# Altium schematic symbol library Lib_Schematic_IFOG_Interrogator.SchLib: 34 symbols
Pins are listed as number, name and electrical type; pins without a type are passive.

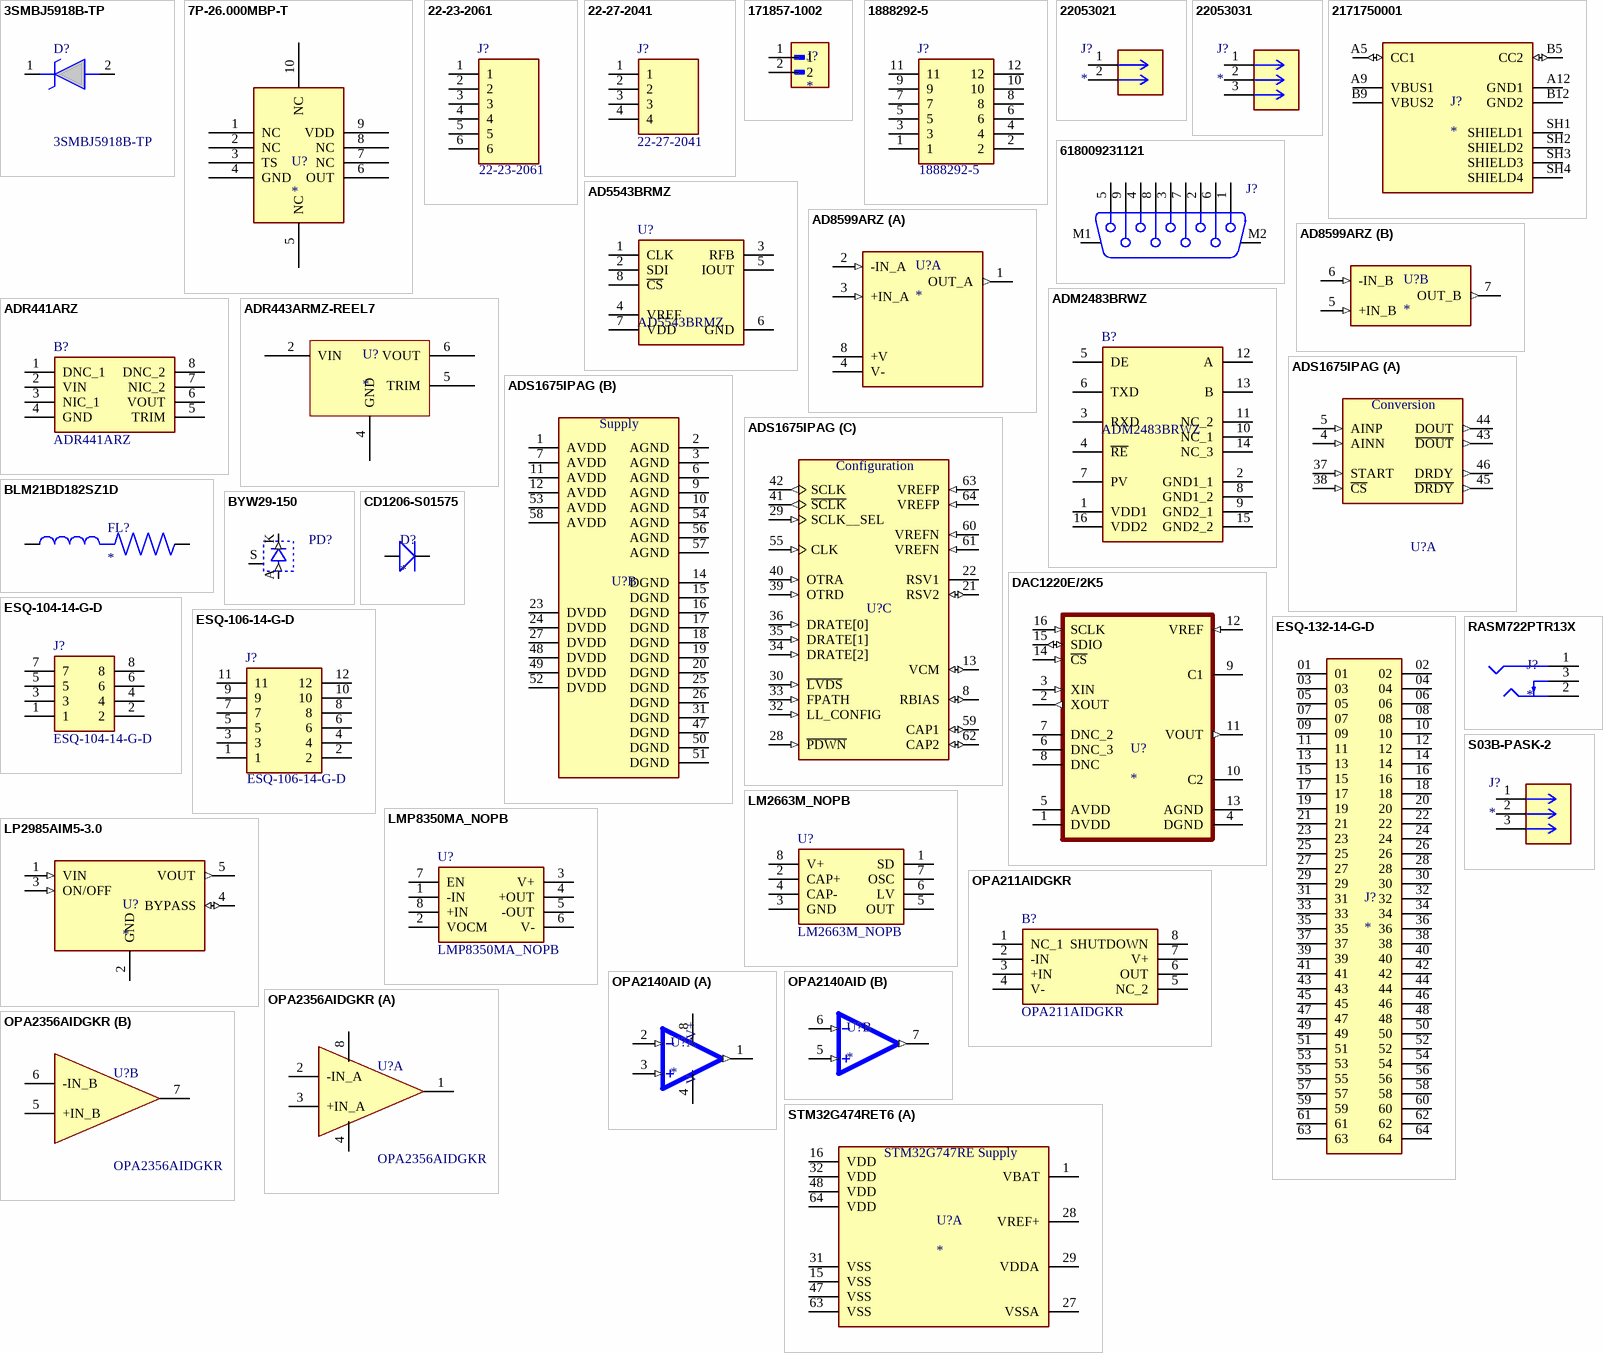
[diagram p0: symbols 3SMBJ5918B-TP to STM32G474RET6]

## 3SMBJ5918B-TP
designator D?
Zener Diodes; Manufacturer_Name: MCC; Geometry.Height: 2.62mm; Manufacturer_Part_Number: 3SMBJ5918B-TP; Mouser Part Number: 833-3SMBJ5918B-TP; Mouser Price/Stock: https://www.mouser.com/Search/Refine.aspx?Keyword=833-3SMBJ5918B-TP; Arrow Part Number: 3SMBJ5918B-TP; Arrow Price/Stock: https://www.arrow.com/en/products/3smbj5918b-tp/micro-commercial-components; Datasheet Link: https://www.mccsemi.com/pdf/Products/3SMBJ5918B-3SMBJ5956B(SMB).pdf
footprint DIOM5336X262N
footprint 3SMBJ5918B-TP
pins: 1 K, 2 A

## 7P-26.000MBP-T
designator U?
footprint 7P26000MBPT
pins: 1 NC, 2 NC, 3 TS, 4 GND, 5 NC, 6 OUT, 7 NC, 8 NC, 9 VDD, 10 NC

## 22-23-2061
designator J?
2.54mm,header,KK,vert,Sn,frictn lock,6w Molex KK 254 Series, Series Number 6373, 2.54mm Pitch 6 Way 1 Row Straight PCB Header, Through Hole, Solder Termination; Geometry.Height: 11.05mm; Manufacturer_Name: Molex; Manufacturer_Part_Number: 22-23-2061; Mouser Part Number: 538-22-23-2061; Mouser Price/Stock: https://www.mouser.co.uk/ProductDetail/Molex/22-23-2061?qs=ILqg114nvd6YkpLBwrcQsQ%3D%3D; Arrow Part Number: *; Arrow Price/Stock: *; Datasheet Link: http://www.molex.com/pdm_docs/sd/022232061_sd.pdf
footprint SHDR6W87P0X254_1X6_1509X635X1105P
footprint 22-23-2061
pins: 1, 2, 3, 4, 5, 6

## 22-27-2041
designator J?
Headers & Wire Housings 4 POS HEADER; Manufacturer_Name: Molex; Geometry.Height: 11.7mm; Manufacturer_Part_Number: 22-27-2041; Mouser Part Number: 538-22-27-2041; Mouser Price/Stock: https://www.mouser.co.uk/ProductDetail/Molex/22-27-2041?qs=hSmm4fxMIuMKVUQkn4wbYQ%3D%3D; Arrow Part Number: *; Arrow Price/Stock: *; Datasheet Link: https://www.molex.com/pdm_docs/sd/022272041_sd.pdf
footprint SHDR4W64P0X254_1X4_1016X580X1170P
footprint 22-27-2041
pins: 1, 2, 3, 4

## 171857-1002
designator J?
MF: {'manufacturer': u'Molex'}; MP: 171857-1002; Package: None; Price: None; Value: *; Availability: Unavailable
footprint MOLEX_171857-1002
footprint MOLEX_171857-1002
pins: 1, 2

## 1888292-5
designator J?
12 Position, Elevated Socket Strip, 0.100&quot; Pitch; Manufacturer_Name: SAMTEC; Manufacturer_Part_Number: ESQ-106-14-G-D; Mouser Part Number: 200-ESQ10614GD; Mouser Price/Stock: https://www.mouser.co.uk/ProductDetail/Samtec/ESQ-106-14-G-D?qs=0lQeLiL1qybkPQShhYifng%3D%3D; Arrow Part Number: *; Arrow Price/Stock: *; Datasheet Link: http://suddendocs.samtec.com/prints/esq-1xx-xx-x-x-xxx-xx-x-xx-mkt.pdf
footprint ESQ-106-Y-X-D
footprint ESQ-106-Y-X-D
footprint TE_1888292-5
pins: 1, 2, 3, 4, 5, 6, 7, 8, 9, 10, 11, 12

## 22053021
designator J?
MP: 22053021; Package: None; Price: None; Value: *; Availability: Unavailable
footprint CONN_A-7478-02A_MOL
footprint 22-05-3021
pins: 1, 2

## 22053031
designator J?
Headers R/A PCB HDR 3P TIN FRICTION LOCK | Molex Incorporated 22-05-3031; SnapEDA_Link: https://www.snapeda.com/parts/22-05-3031/Molex/view-part/?ref=snap; Package: None; Value: *; MF: Molex; MP: 22-05-3031; Check_prices: https://www.snapeda.com/parts/22-05-3031/Molex/view-part/?ref=eda
footprint CONN_A-7478-03A_MOL
footprint 22-05-3031
pins: 1, 2, 3

## 2171750001
designator J?
USB-C (USB TYPE-C) USB 2.0 Receptacle Connector 24 (6+18 Dummy) Position Surface Mount, Right Angle; Through Hole; MF: Molex; MP: 2171750001; SnapEDA_Link: https://www.snapeda.com/parts/2171750001/Molex/view-part/?ref=snap; Package: None; Value: *; Check_prices: https://www.snapeda.com/parts/2171750001/Molex/view-part/?ref=eda
footprint MOLEX_2171750001
footprint MOLEX_2171750001
pins: A5 CC1 (io), A9 VBUS1 (power), A12 GND1 (power), B5 CC2 (io), B9 VBUS2 (power), B12 GND2 (power), SH1 SHIELD1, SH2 SHIELD2, SH3 SHIELD3, SH4 SHIELD4

## 618009231121
designator J?  (value not drawn)
WR-DSUB 8.08mm Female PCB Connector with Hex Screw, THT, Angled, 9p; Manufacturer: Wurth Elektronik; Contact Resistance: 30mΩ; Rated Current: 3A; Working Voltage: 125VAC; Withstanding Voltage: 1000VAC; Manufacturer Part Number: 618009231121; Category: Input/Output Connector; Match Code: WR-DSUB; ComponentLink1Description: Website Link; ComponentLink1URL: https://www.we-online.com/redexpert/article/618009231121?ad; ComponentLink2Description: Datasheet Link; ComponentLink2URL: https://www.we-online.com/redexpert/spec/618009231121?ad; Mount: Through Hole; Min Operating Temperature: -55°C; Max Operating Temperature: 105°C; Packaging: Tray; Gender: Female; Number of Pins: 9; Orientation: Angled
footprint 618009231121
pins: 1, 2, 3, 4, 5, 6, 7, 8, 9, M1, M2

## AD5543BRMZ
designator U?
AD5543BRMZ, 16-Bit General Purpose DAC 2.47Msps, SPI, 8-Pin MSOP; Manufacturer_Name: Analog Devices; Geometry.Height: 1.1mm; Manufacturer_Part_Number: AD5543BRMZ; Mouser Part Number: 584-AD5543BRMZ; Mouser Price/Stock: https://www.mouser.co.uk/ProductDetail/Analog-Devices/AD5543BRMZ?qs=NmRFExCfTkGF7F9gS5LwsA%3D%3D; Arrow Part Number: AD5543BRMZ; Arrow Price/Stock: https://www.arrow.com/en/products/ad5543brmz/analog-devices?utm_currency=USD&region=nac; Datasheet Link: http://www.analog.com/static/imported-files/data_sheets/AD5543_5553.pdf
footprint SOP65P490X110-8N
pins: 1 CLK, 2 SDI, 3 RFB, 4 VREF, 5 IOUT, 6 GND, 7 VDD, 8 ~{CS}

## AD8599ARZ
designator U?
Ultralow Distortion, Ultralow Noise Op Amp (Dual); MF: Analog Devices; MP: AD8599ARZ; Package: SOIC-8 Analog Devices; Price: None; Check_prices: https://www.snapeda.com/parts/AD8599ARZ/Analog+Devices/view-part/?ref=eda; Value: *; SnapEDA_Link: https://www.snapeda.com/parts/AD8599ARZ/Analog+Devices/view-part/?ref=snap; Availability: In Stock; Purchase-URL: https://pricing.snapeda.com/search?q=AD8599ARZ&ref=eda
footprint SOIC127P600X175-8N
footprint AD8599ARZ
part A pins: 1 OUT_A (out), 2 -IN_A (in), 3 +IN_A (in), 4 V- (power), 8 +V (power)
part B pins: 5 +IN_B (in), 6 -IN_B (in), 7 OUT_B (out)

## ADM2483BRWZ
designator B?
Half-Duplex, iCoupler Isolated RS-485 Transceiver; Manufacturer_Name: Analog Devices; Geometry.Height: 2.65mm; Manufacturer_Part_Number: ADM2483BRWZ; Mouser Part Number: 584-ADM2483BRWZ; Mouser Price/Stock: https://www.mouser.co.uk/ProductDetail/Analog-Devices/ADM2483BRWZ?qs=BpaRKvA4VqH5Kim10agOlw%3D%3D; Arrow Part Number: ADM2483BRWZ; Arrow Price/Stock: https://www.arrow.com/en/products/adm2483brwz/analog-devices?utm_currency=USD&region=europe; Datasheet Link: http://uk.rs-online.com/web/p/products/0412719P
footprint SOIC127P1032X265-16N
footprint ADM2483BRWZ
pins: 1 VDD1, 2 GND1_1, 3 RXD, 4 ~{RE}, 5 DE, 6 TXD, 7 PV, 8 GND1_2, 9 GND2_1, 10 NC_1, 11 NC_2, 12 A, 13 B, 14 NC_3, 15 GND2_2, 16 VDD2

## ADR441ARZ
designator B?
Series Voltage Reference IC Fixed 2.5V V +/-0.12% 10 mA 8-SOIC; Manufacturer_Name: Analog Devices; Geometry.Height: 1.75mm; Manufacturer_Part_Number: ADR441ARZ; Mouser Part Number: 584-ADR441ARZ; Mouser Price/Stock: https://www.mouser.co.uk/ProductDetail/Analog-Devices/ADR441ARZ?qs=WIvQP4zGanjF%252B9HT%2FrItQQ%3D%3D; Arrow Part Number: ADR441ARZ; Arrow Price/Stock: https://www.arrow.com/en/products/adr441arz/analog-devices?region=europe; Datasheet Link: https://www.analog.com/media/en/technical-documentation/data-sheets/adr440_441_443_444_445.pdf
footprint SOIC127P600X175-8N
pins: 1 DNC_1, 2 VIN, 3 NIC_1, 4 GND, 5 TRIM, 6 VOUT, 7 NIC_2, 8 DNC_2

## ADR443ARMZ-REEL7
designator U?
Ultralow Noise, LDO XFET Voltage Reference with Current Sink and Source, 3 V Output, 3.5 to 18 V Supply, Industrial, 8-pin SOP (RM-8), Reel
pins: 2 VIN, 4 GND, 5 TRIM, 6 VOUT

## ADS1675IPAG
designator U?
4MSPS, 24-Bit Analog-to-Digital Converter; MP: ADS1675IPAG; MF: Texas Instruments; SnapEDA_Link: https://www.snapeda.com/parts/ADS1675IPAG/Texas+Instruments/view-part/?ref=snap; Package: TQFP-64 Texas Instruments; Check_prices: https://www.snapeda.com/parts/ADS1675IPAG/Texas+Instruments/view-part/?ref=eda; Purchase-URL: https://pricing.snapeda.com/search/part/ADS1675IPAG/?ref=eda; Price: None; Value: *; Availability: In Stock
footprint QFP50P1200X1200X120-64N
footprint ADS1675IPAG
part A pins: 4 AINN (in), 5 AINP (in), 37 START (in), 38 ~{CS} (in), 43 ~{DOUT} (out), 44 DOUT (out), 45 ~{DRDY} (out), 46 DRDY (out)
part B pins: 1 AVDD (power), 2 AGND (power), 3 AGND (power), 6 AGND (power), 7 AVDD (power), 9 AGND (power), 10 AGND (power), 11 AVDD (power), 12 AVDD (power), 14 DGND (power), 15 DGND (power), 16 DGND (power), 17 DGND (power), 18 DGND (power), 19 DGND (power), 20 DGND (power), 23 DVDD (power), 24 DVDD (power), 25 DGND (power), 26 DGND (power), 27 DVDD (power), 31 DGND (power), 47 DGND (power), 48 DVDD (power), 49 DVDD (power), 50 DGND (power), 51 DGND (power), 52 DVDD (power), 53 AVDD (power), 54 AGND (power), 56 AGND (power), 57 AGND (power), 58 AVDD (power)
part C pins: 8 RBIAS (io), 13 VCM (io), 21 RSV2 (io), 22 RSV1 (power), 28 ~{PDWN} (in), 29 SCLK__SEL (in), 30 ~{LVDS} (in), 32 LL_CONFIG (in), 33 FPATH (in), 34 DRATE[2] (in), 35 DRATE[1] (in), 36 DRATE[0] (in), 39 OTRD (in), 40 OTRA (in), 41 ~{S}~{C}~{L}~{K} (out), 42 SCLK (out), 55 CLK (in), 59 CAP1 (io), 60 VREFN (in), 61 VREFN (in), 62 CAP2 (io), 63 VREFP (in), 64 VREFP (in)
part A text: Conversion
part B text: Supply
part C text: Configuration

## BLM21BD182SZ1D
designator FL?
MP: BLM21BD182SZ1D; Package: None; Price: None; Value: *; Availability: Unavailable
footprint BEADC2012X105N
footprint BLM21BD182SZ1D
pins: 1, 2

## BYW29-150
designator PD?
Text Field1: 10; Text Field2: 20
footprint TO220AC
footprint OTICO
footprint Model Name (Footprint not found)
footprint otico
footprint PHOTODETECTOR
footprint BYW29-150
pins: A (in), K (out), S

## CD1206-S01575
designator D?
CD1206-S01575, SMT Switching Diode, Vr=75V 150mA, 4ns, 2-Pin 1206 | Bourns CD1206-S01575; SnapEDA_Link: https://www.snapeda.com/parts/CD1206-S01575/Bourns/view-part/?ref=snap; Package: 1206 Bourns; Value: *; MF: Bourns; MP: CD1206-S01575; Check_prices: https://www.snapeda.com/parts/CD1206-S01575/Bourns/view-part/?ref=eda
footprint LED-1206
pins: NEG, POS

## DAC1220E/2K5
designator U?
Digital-to-Analog Converter; MP: DAC1220E/2K5; Package: None; Price: None; Value: *; Availability: Unavailable
footprint SOP63P600X175-16N
footprint DAC1220E/2K5
pins: 1 DVDD (power), 2 XOUT (out), 3 XIN (in), 4 DGND, 5 AVDD (power), 6 DNC_3, 7 DNC_2, 8 DNC, 9 C1, 10 C2, 11 VOUT (out), 12 VREF (in), 13 AGND, 14 ~{CS} (in), 15 SDIO (io), 16 SCLK (in)

## ESQ-104-14-G-D
designator J?
8 Position, Elevated Socket Strip, 0.100&quot; Pitch; Manufacturer_Name: SAMTEC; Manufacturer_Part_Number: ESQ-104-14-G-D; Mouser Part Number: 200-ESQ10414GD; Mouser Price/Stock: https://www.mouser.co.uk/ProductDetail/Samtec/ESQ-104-14-G-D?qs=92ilVni64gyTjYk0W1u1kw%3D%3D; Arrow Part Number: ESQ-104-14-G-D; Arrow Price/Stock: https://www.arrow.com/en/products/esq-104-14-g-d/samtec; Datasheet Link: http://suddendocs.samtec.com/prints/esq-1xx-xx-x-x-xxx-xx-x-xx-mkt.pdf
footprint ESQ-104-Y-X-D
footprint ESQ-104-Y-X-D
footprint ESQ-104-14-G-D
pins: 1, 2, 3, 4, 5, 6, 7, 8

## ESQ-106-14-G-D
designator J?
12 Position, Elevated Socket Strip, 0.100&quot; Pitch; Manufacturer_Name: SAMTEC; Manufacturer_Part_Number: ESQ-106-14-G-D; Mouser Part Number: 200-ESQ10614GD; Mouser Price/Stock: https://www.mouser.co.uk/ProductDetail/Samtec/ESQ-106-14-G-D?qs=0lQeLiL1qybkPQShhYifng%3D%3D; Arrow Part Number: *; Arrow Price/Stock: *; Datasheet Link: http://suddendocs.samtec.com/prints/esq-1xx-xx-x-x-xxx-xx-x-xx-mkt.pdf
footprint ESQ-106-Y-X-D
footprint ESQ-106-Y-X-D
pins: 1, 2, 3, 4, 5, 6, 7, 8, 9, 10, 11, 12

## ESQ-132-14-G-D
designator J?
MF: Samtec; MP: ESQ-132-14-G-D; Availability: Unavailable; Price: None; Value: *; Package: None
footprint SAMTEC_ESQ-132-14-G-D
footprint ESQ-132-14-G-D
pins: 01, 02, 03, 04, 05, 06, 07, 08, 09, 10, 11, 12, 13, 14, 15, 16, 17, 18, 19, 20, 21, 22, 23, 24, 25, 26, 27, 28, 29, 30, 31, 32, 33, 34, 35, 36, 37, 38, 39, 40, 41, 42, 43, 44, 45, 46, 47, 48, 49, 50, 51, 52, 53, 54, 55, 56, 57, 58, 59, 60, 61, 62, 63, 64

## LM2663M_NOPB
designator U?
200mA switched capacitor voltage converter with low current shutdown mode; Manufacturer_Name: Texas Instruments; Manufacturer_Part_Number: LM2663M/NOPB; Geometry.Height: 1.75mm; Mouser Part Number: 926-LM2663M/NOPB; Mouser Price/Stock: https://www.mouser.co.uk/ProductDetail/Texas-Instruments/LM2663M-NOPB?qs=X1J7HmVL2ZH655akkcil2g%3D%3D; Arrow Part Number: LM2663M/NOPB; Arrow Price/Stock: https://www.arrow.com/en/products/lm2663mnopb/texas-instruments?utm_currency=USD&region=europe; Datasheet Link: http://www.ti.com/lit/ds/symlink/lm2663.pdf
footprint SOIC127P600X175-8N
footprint LM2663M_NOPB
pins: 1 SD, 2 CAP+, 3 GND, 4 CAP-, 5 OUT, 6 LV, 7 OSC, 8 V+

## LMP8350MA_NOPB
designator U?
Ultra Low Distortion Fully Differential Precision ADC Driver with Selectable Power Modes; Manufacturer_Name: Texas Instruments; Manufacturer_Part_Number: LMP8350MA/NOPB; Geometry.Height: 1.75mm; Mouser Part Number: 926-LMP8350MA/NOPB; Mouser Price/Stock: https://www.mouser.co.uk/ProductDetail/Texas-Instruments/LMP8350MA-NOPB?qs=OYMYEaN9QmBOQoVkyNgTKw%3D%3D; Arrow Part Number: LMP8350MA/NOPB; Arrow Price/Stock: null?region=nac; Datasheet Link: http://www.ti.com/lit/gpn/lmp8350
footprint SOIC127P600X175-8N
footprint LMP8350MA_NOPB
pins: 1 -IN, 2 VOCM, 3 V+, 4 +OUT, 5 -OUT, 6 V-, 7 EN, 8 +IN

## LP2985AIM5-3.0
designator U?
150-mA, 16-V, low-dropout voltage regulator with enable; MF: Texas Instruments; MP: LP2985AIM5-3.0/NOPB; SnapEDA_Link: https://www.snapeda.com/parts/LP2985AIM5-3.0/NOPB/Texas+Instruments/view-part/?ref=snap; Package: SOT-23-5 Texas Instruments; Value: *; Check_prices: https://www.snapeda.com/parts/LP2985AIM5-3.0/NOPB/Texas+Instruments/view-part/?ref=eda
footprint SOT95P280X145-5N
footprint LP2985AIM5-3.0
pins: 1 VIN (in), 2 GND (power), 3 ON/OFF (in), 4 BYPASS (io), 5 VOUT (out)

## OPA211AIDGKR
designator B?
Precision Amplifiers 1.1nV/rtHz Noise Lo Pwr Prec Op Amp; Manufacturer_Name: Texas Instruments; Geometry.Height: 1.1mm; Manufacturer_Part_Number: OPA211AIDGKR; Mouser Part Number: 595-OPA211AIDGKR; Mouser Price/Stock: https://www.mouser.co.uk/ProductDetail/Texas-Instruments/OPA211AIDGKR?qs=iSMark9AYDXgBzgxm95hVg%3D%3D; Arrow Part Number: OPA211AIDGKR; Arrow Price/Stock: https://www.arrow.com/en/products/opa211aidgkr/texas-instruments?utm_currency=USD&region=nac; Datasheet Link: https://www.ti.com/general/docs/suppproductinfo.tsp?distId=10&gotoUrl=https%3A%2F%2Fwww.ti.com%2Flit%2Fgpn%2Fopa211
footprint SOP65P490X110-8N
pins: 1 NC_1, 2 -IN, 3 +IN, 4 V-, 5 NC_2, 6 OUT, 7 V+, 8 SHUTDOWN

## OPA2140AID
designator U?
Dual-channel, 11-MHz, low-noise 36-V JFET precision operational amplifier with rail-to-rail output; MF: Texas Instruments; MP: OPA2140AID; SnapEDA_Link: https://www.snapeda.com/parts/OPA2140AID/Texas+Instruments/view-part/?ref=snap; Package: SOIC-8 Texas Instruments; Value: *; Check_prices: https://www.snapeda.com/parts/OPA2140AID/Texas+Instruments/view-part/?ref=eda
footprint SOIC127P599X175-8N
footprint OPA2140AID
part A pins: 1 OUTA (out), 2 -INA (in), 3 +INA (in), 4 V- (power), 8 V+ (power)
part B pins: 5 +INB (in), 6 -INB (in), 7 OUTB (out)

## OPA2356AIDGKR
designator U?
High Speed Operational Amplifiers 2.5V 200MHz GBW CMOS Dual Op Amp; Manufacturer_Name: Texas Instruments; Geometry.Height: 1.1mm; Manufacturer_Part_Number: OPA2356AIDGKR; Mouser Part Number: 595-OPA2356AIDGKR; Mouser Price/Stock: https://www.mouser.co.uk/ProductDetail/Texas-Instruments/OPA2356AIDGKR?qs=7nS3%252BbEUL6thmoW05USD8Q%3D%3D; Arrow Part Number: OPA2356AIDGKR; Arrow Price/Stock: https://www.arrow.com/en/products/opa2356aidgkr/texas-instruments?region=nac; Datasheet Link: http://www.ti.com/lit/ds/symlink/opa2356.pdf
footprint SOP65P490X110-8N
footprint OPA2356AIDGKR
part A pins: 1 OUT_A, 2 -IN_A, 3 +IN_A, 4 V-, 8 V+
part B pins: 5 +IN_B, 6 -IN_B, 7 OUT_B

## RASM722PTR13X
designator J?
Power Barrel Connector Jack 2.10mm ID (0.083), 5.50mm OD (0.217) Surface Mount, Right Angle; MF: Switchcraft Inc.; MP: RASM722PTR13X; SnapEDA_Link: https://www.snapeda.com/parts/RASM722PTR13X/SWITCHCRAFT/view-part/?ref=snap; Package: None; Value: *; Check_prices: https://www.snapeda.com/parts/RASM722PTR13X/SWITCHCRAFT/view-part/?ref=eda
footprint SWITCHCRAFT_RASM722PTR13X
footprint RASM722PTR13X
pins: 1 TIP, 2 SLEEVE, 3 SHUNT

## S03B-PASK-2
designator J?
Headers R/A PCB HDR 3P TIN FRICTION LOCK | Molex Incorporated 22-05-3031; SnapEDA_Link: https://www.snapeda.com/parts/22-05-3031/Molex/view-part/?ref=snap; Package: None; Value: *; MF: Molex; MP: 22-05-3031; Check_prices: https://www.snapeda.com/parts/22-05-3031/Molex/view-part/?ref=eda
footprint CONN_A-7478-03A_MOL
footprint 22-05-3031
footprint S03B-PASK-2
pins: 1, 2, 3

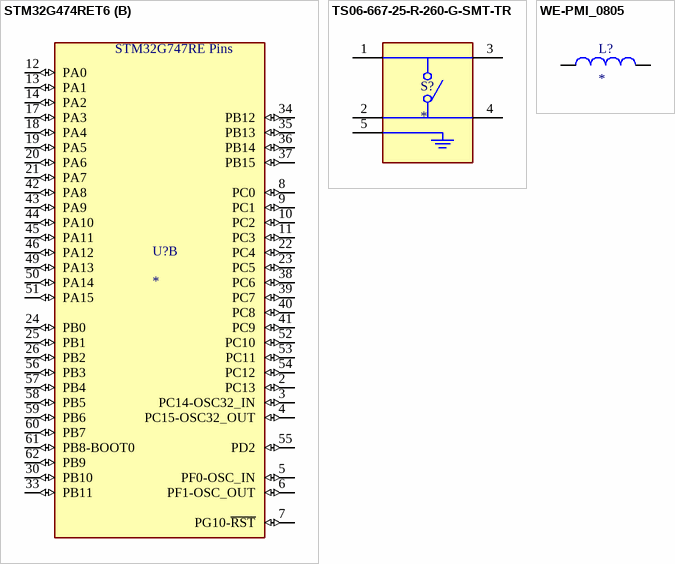
[diagram p1: symbols STM32G474RET6 to WE-PMI_0805]

## STM32G474RET6
designator U?
ARMÂ® CortexÂ®-M4F STM32G4 Microcontroller IC 32-Bit Single-Core 170MHz 512KB (512K x 8) FLASH 64-LQFP (10x10); MF: STMicroelectronics; MP: STM32G474RET6; SnapEDA_Link: https://www.snapeda.com/parts/STM32G474RET6/STMicroelectronics/view-part/?ref=snap; Package: LQFP-64 STMicroelectronics; Value: *; Check_prices: https://www.snapeda.com/parts/STM32G474RET6/STMicroelectronics/view-part/?ref=eda
footprint QFP50P1200X1200X160-64N
footprint STMG474RET6
part A pins: 1 VBAT (power), 15 VSS (power), 16 VDD (power), 27 VSSA (power), 28 VREF+ (power), 29 VDDA (power), 31 VSS (power), 32 VDD (power), 47 VSS (power), 48 VDD (power), 63 VSS (power), 64 VDD (power)
part B pins: 2 PC13 (io), 3 PC14-OSC32_IN (io), 4 PC15-OSC32_OUT (io), 5 PF0-OSC_IN (io), 6 PF1-OSC_OUT (io), 7 PG10-~{RST} (io), 8 PC0 (io), 9 PC1 (io), 10 PC2 (io), 11 PC3 (io), 12 PA0 (io), 13 PA1 (io), 14 PA2 (io), 17 PA3 (io), 18 PA4 (io), 19 PA5 (io), 20 PA6 (io), 21 PA7 (io), 22 PC4 (io), 23 PC5 (io), 24 PB0 (io), 25 PB1 (io), 26 PB2 (io), 30 PB10 (io), 33 PB11 (io), 34 PB12 (io), 35 PB13 (io), 36 PB14 (io), 37 PB15 (io), 38 PC6 (io), 39 PC7 (io), 40 PC8 (io), 41 PC9 (io), 42 PA8 (io), 43 PA9 (io), 44 PA10 (io), 45 PA11 (io), 46 PA12 (io), 49 PA13 (io), 50 PA14 (io), 51 PA15 (io), 52 PC10 (io), 53 PC11 (io), 54 PC12 (io), 55 PD2 (io), 56 PB3 (io), 57 PB4 (io), 58 PB5 (io), 59 PB6 (io), 60 PB7 (io), 61 PB8-BOOT0 (io), 62 PB9 (io)
part A text: STM32G747RE Supply
part B text: STM32G747RE Pins

## TS06-667-25-R-260-G-SMT-TR
designator S?
6 x 6.7 mm, 2.5 mm Actuator Height, 260 gf, Red, Surface Mount, SPST, Tactile Switch; MF: Same Sky; MP: TS06-667-25-R-260-G-SMT-TR; SnapEDA_Link: https://www.snapeda.com/parts/TS06-667-25-R-260-G-SMT-TR/Same+Sky/view-part/?ref=snap; Package: None; Value: *; Check_prices: https://www.snapeda.com/parts/TS06-667-25-R-260-G-SMT-TR/Same+Sky/view-part/?ref=eda
footprint SW_TS06-667-25-R-260-G-SMT-TR
footprint TS06-667-25-R-260-G-SMT-TR
pins: 1, 2, 3, 4, 5

## WE-PMI_0805
designator L?
WE-PMI Series 1 ÂµH Â±20% Multilayer SMD Inductor, 0805 Case; 0.1GHz 1.1A 190mO ¦ Wurth Electronics 74479774210; MF: WÃ¼rth Elektronik; SnapEDA_Link: https://www.snapeda.com/parts/74479774210/W%25C3%25BCrth+Elektronik+Midcom/view-part/?ref=snap; Package: 0805 Wurth Electronics; Value: *; MP: 74479774210; Check_prices: https://www.snapeda.com/parts/74479774210/W%25C3%25BCrth+Elektronik+Midcom/view-part/?ref=eda
footprint WE-PMI_0805_H0.5
pins: 1, 2